# Altium integrated library MAX2659ELTT.IntLib: 1 symbol
Pins are listed as number, name and electrical type; pins without a type are passive.

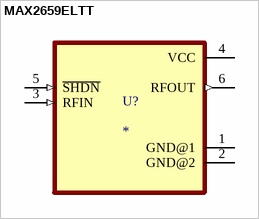
[diagram p0: symbol MAX2659ELTT]

## MAX2659ELTT
designator U?
GPS/GNSS Low-Noise Amplifier; MF: Analog Devices; MP: MAX2659ELT+T; SnapEDA_Link: https://www.snapeda.com/parts/MAX2659ELT+T/Analog+Devices/view-part/?ref=snap; Package: MICRO DFN-6 Maxim; Value: *; Check_prices: https://www.snapeda.com/parts/MAX2659ELT+T/Analog+Devices/view-part/?ref=eda
footprint SON50P150X100X80-6N
pins: 1 GND@1 (power), 2 GND@2 (power), 3 RFIN (in), 4 VCC (power), 5 ~{SHDN} (in), 6 RFOUT (out)